# EAGLE library part RIOT (library crasbe)
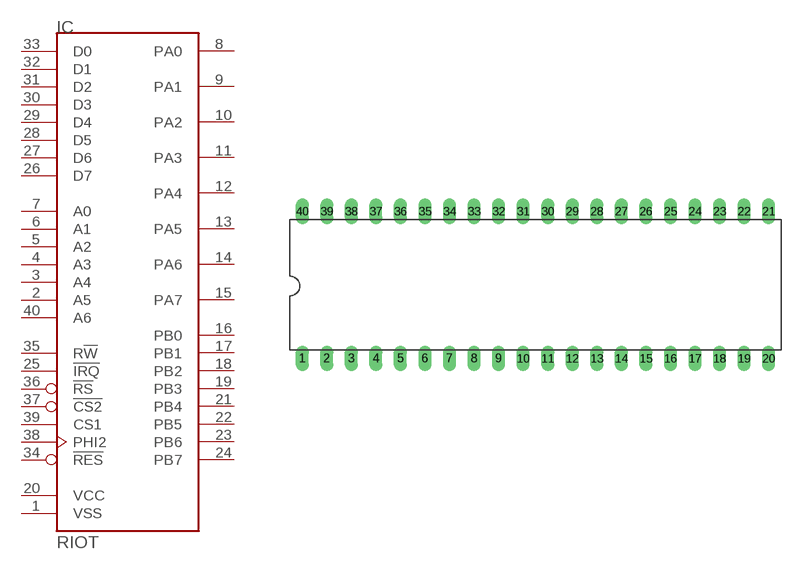
[diagram p36: symbol with the pads of DIL40; footprint DIL40]

Designator prefix IC

## RIOT  [DIL40]
1  VSS  pwr
2  A5  in
3  A4  in
4  A3  in
5  A2  in
6  A1  in
7  A0  in
8  PA0
9  PA1
10  PA2
11  PA3
12  PA4
13  PA5
14  PA6
15  PA7
16  PB0
17  PB1
18  PB2
19  PB3
20  VCC  pwr
21  PB4
22  PB5
23  PB6
24  PB7
25  !IRQ  out
26  D7
27  D6
28  D5
29  D4
30  D3
31  D2
32  D1
33  D0
34  !RES  in
35  R!W  in
36  !RS  in
37  !CS2  in
38  PHI2  in
39  CS1  in
40  A6  in

## Footprint DIL40 (pad centres in mm)
drill 0.813 long: 1 -24.13,-7.62; 2 -21.59,-7.62; 3 -19.05,-7.62; 4 -16.51,-7.62; 5 -13.97,-7.62; 6 -11.43,-7.62; 7 -8.89,-7.62; 8 -6.35,-7.62; 9 -3.81,-7.62; 10 -1.27,-7.62; 11 1.27,-7.62; 12 3.81,-7.62; 13 6.35,-7.62; 14 8.89,-7.62; 15 11.43,-7.62; 16 13.97,-7.62; 17 16.51,-7.62; 18 19.05,-7.62; 19 21.59,-7.62; 20 24.13,-7.62; 21 24.13,7.62; 22 21.59,7.62; 23 19.05,7.62; 24 16.51,7.62; 25 13.97,7.62; 26 11.43,7.62; 27 8.89,7.62; 28 6.35,7.62; 29 3.81,7.62; 30 1.27,7.62; 31 -1.27,7.62; 32 -3.81,7.62; 33 -6.35,7.62; 34 -8.89,7.62; 35 -11.43,7.62; 36 -13.97,7.62; 37 -16.51,7.62; 38 -19.05,7.62; 39 -21.59,7.62; 40 -24.13,7.62